# Altium footprint library mic.PcbLib: 1 footprints
Each footprint in its own frame and in the unit in brackets; x right, y up, seen from the top. Pads: shape width x height; smd on the part's side, far side on the other; paste and mask are expansions set on the pad; w line width, h text height; cw(c..) or ccw(c..) is an arc to the next point about the centre after c.
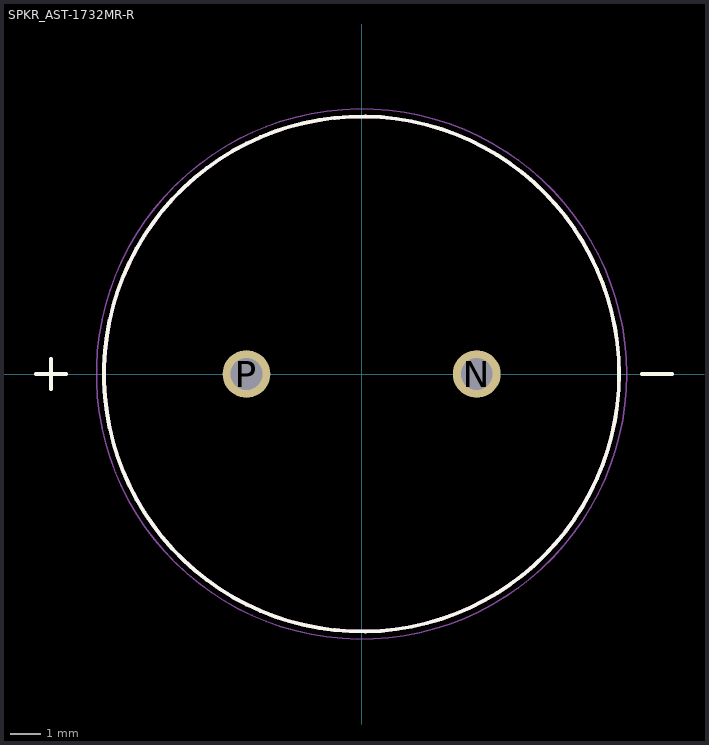
[diagram p0: the footprint, top view; thin cyan lines are the x and y axes]

## SPKR_AST-1732MR-R [mm]
pads (2):
  round 1.575 hole 1.05: N(3.8,0) P(-3.8,0)
Top Overlay:
  circle w0.127: c0,0 r8.5
  lines w0.127: -10.75,0 -9.75,0 ; -10.25,-0.5 -10.25,0.5 ; 9.25,0 10.25,0
Mechanical 13:
  circle w0.127: c0,0 r8.5
  lines w0.127: -10.75,0 -9.75,0 ; -10.25,-0.5 -10.25,0.5 ; 9.25,0 10.25,0
Mechanical 15:
  circle w0.05: c0,0 r8.75
3D body "step_temp.STEP": height 6.35, standoff -8, extent -8.5,-8.5 8.5,8.5